# Altium footprint library Bogdanov.PcbLib: 4 footprints
Each footprint in its own frame and in the unit in brackets; x right, y up, seen from the top. Pads: shape width x height; smd on the part's side, far side on the other; paste and mask are expansions set on the pad; w line width, h text height; cw(c..) or ccw(c..) is an arc to the next point about the centre after c.
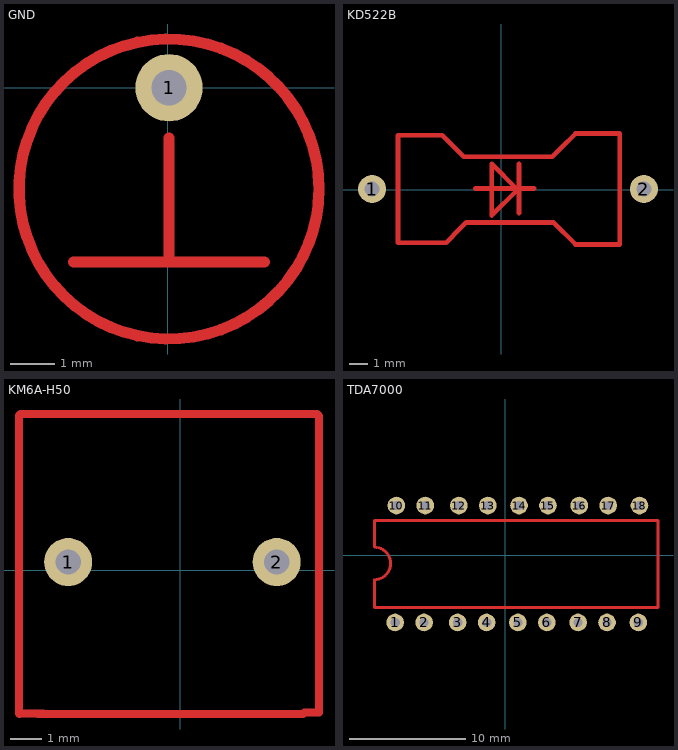
[diagram p0: the footprints below, top view; thin cyan lines are the x and y axes]

## GND [mil]
pads (1):
  round 60 hole 31.5: 1(1.22,0.12)
Top Layer:
  circle w10: c1.22,-90 r133.5
  lines w10: -83.78,-154.88 86.22,-154.88 ; 1.22,-154.88 1.22,-44.88
  text "GND" at -70,-40 h60

## KD522B [mil]
pads (2):
  round 60 hole 31.5: 1(-274.61,1.22) 2(304.13,1.22)
Top Layer:
  lines w10: -55,2.28 70,2.28 ; 38.23,-50 38.23,55 ; -219.49,-112.95 -117.13,-112.95 -87.6,-83.43 -74.17,-70 111.57,-70 158.46,-116.89 252.95,-116.89 252.95,119.33 158.46,119.33 126.97,87.83 109.13,70 -79.61,70 -125,115.39 -219.49,115.39 -219.49,-112.95 ; -20,-55 35,0 -20,55 -20,-55
  text "KD522B" at 225,-75 h60

## KM6A-H50 [mil]
pads (2):
  round 60 hole 31.5: 1(-140,10) 2(120,10)
Top Layer:
  lines w10: -200.55,-179.45 -201.26,-178.74 ; -177.64,-179.45 153.07,-179.45 154.76,-177.76 172.76,-177.76 172.76,-152.24 ; -171.26,-178.74 -201.26,-178.74 ; 172.76,-159.76 172.76,174.88 172.76,192.24 170.43,194.57 153.07,194.57 -181.57,194.57 -199.57,194.57 -201.26,192.87 -201.26,174.88 -201.26,-155.83 -201.26,-178.74
  text "KM6A-H50" at -20,95 h60

## TDA7000 [mil]
pads (18):
  round 60 hole 31.5: 1(-374.53,-229.37) 2(-276.1,-229.37) 3(-161.93,-229.37) 4(-63.5,-229.37) 5(42.8,-229.37) 6(141.22,-229.37) 7(247.52,-229.37) 8(345.94,-229.37) 9(452.24,-229.37) 10(-370.59,168.27) 11(-272.17,168.27) 12(-157.99,168.27) 13(-59.57,168.27) 14(46.73,168.27) 15(145.16,168.27) 16(251.46,168.27) 17(349.88,168.27) 18(456.18,168.27)
Top Layer:
  lines w10: -445.39,-178.19 -445.39,-84.02 ccw(c-445.39,-28.58) -445.39,26.85 -445.39,117.09 519.17,117.09 519.17,-178.19 -445.39,-178.19
  text "TDA7000" at -65,-50 h60